# Altium schematic symbol library WL-SMCW.SchLib: 52 symbols
Pins are listed as number, name and electrical type; pins without a type are passive.

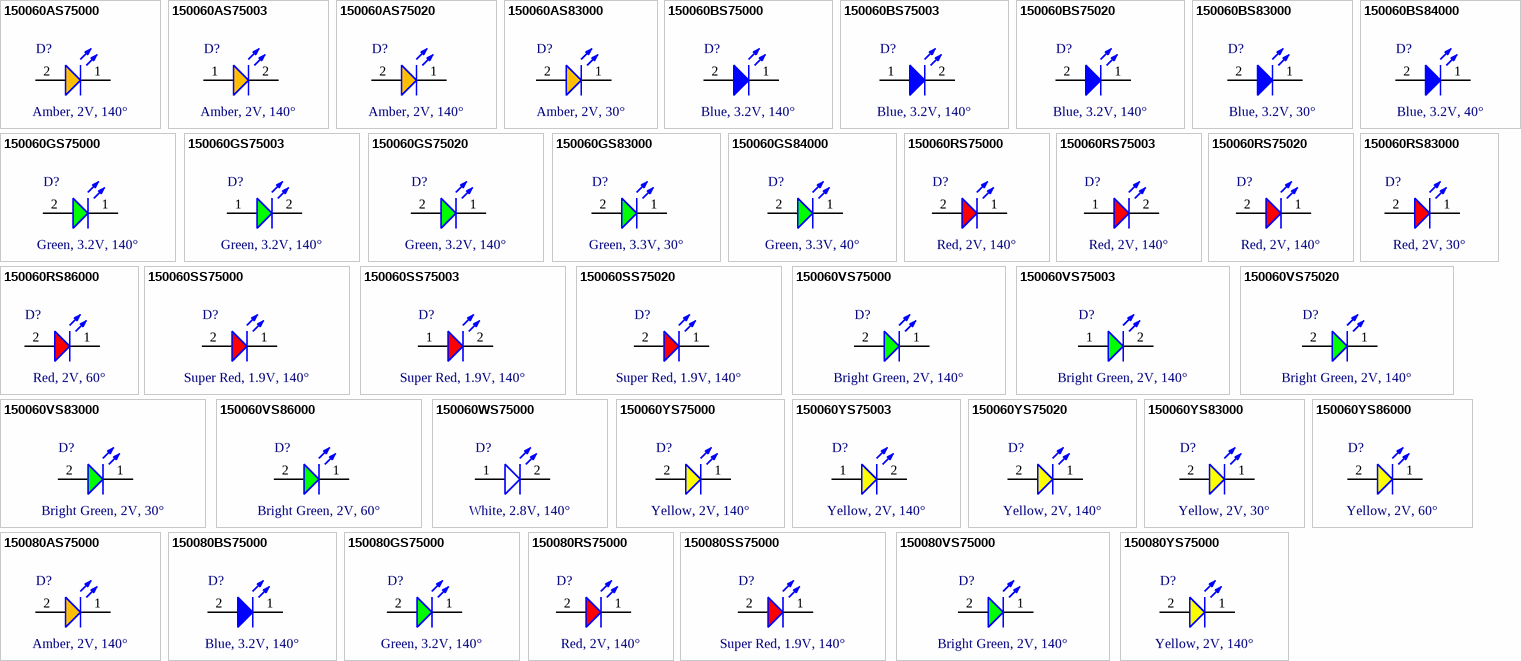
[diagram p0: symbols 150060AS75000 to 150080YS75000]

## 150060AS75000
designator D?, comment Amber, 2V, 140°
WL-SMCW Mono-color Chip LED Waterclear, SMT, size 0603, Amber, 2V, 140°; Manufacturer Part Number: 150060AS75000; Manufacturer: Wurth Elektronik; Case/Size Code: 0603; Chip Technology: AlInGaP; Dominant Wavelength: 605nm; Luminous Intensity: 130mcd; Peak Wavelength: 610nm; Category: Signal LEDs; Match Code: WL-SMCW; ComponentLink1Description: Website Link; ComponentLink1URL: https://www.we-online.com/redexpert/article/150060AS75000?ad; ComponentLink2Description: Datasheet Link; ComponentLink2URL: https://www.we-online.com/redexpert/spec/150060AS75000?ad; Mount: Surface Mount; Operating Temperature Max: 85°C; Operating Temperature Min: -40°C; Packaging: Tape and Reel; Length: 1.6mm; Width: 0.8mm; Height: 0.7mm; Emitting Color: Amber; Forward Voltage: 2V; Viewing Angle: 140°
footprint WL-SMCW_0603_150060xx75000
simulation model 0603_150060AS75000
pins: 1 K, 2 A

## 150060AS75003
designator D?, comment Amber, 2V, 140°
WL-SMCW Mono-color Chip LED Waterclear, SMT, size 0603, Amber, 2V, 140°; Manufacturer Part Number: 150060AS75003; Manufacturer: Wurth Elektronik; Case/Size Code: 0603; Chip Technology: AlInGaP; Dominant Wavelength: 605nm; Luminous Intensity: 350mcd; Peak Wavelength: 610nm; Category: Signal LEDs; Match Code: WL-SMCW; ComponentLink1Description: Website Link; ComponentLink1URL: https://www.we-online.com/redexpert/article/150060AS75003?ad; ComponentLink2Description: Datasheet Link; ComponentLink2URL: https://www.we-online.com/redexpert/spec/150060AS75003?ad; Mount: Surface Mount; Operating Temperature Max: 100°C; Operating Temperature Min: -40°C; Packaging: Tape and Reel; Length: 1.6mm; Width: 0.8mm; Height: 0.7mm; Emitting Color: Amber; Forward Voltage: 2V; Viewing Angle: 140°
footprint WL-SMCW_0603_150060xx75003
simulation model 0603_150060AS75003
pins: 1 A, 2 K

## 150060AS75020
designator D?, comment Amber, 2V, 140°
WL-SMCW Mono-color Chip LED Waterclear, SMT, size 0603, Amber, 2V, 140°; Manufacturer Part Number: 150060AS75020; Manufacturer: Wurth Elektronik; Case/Size Code: 0603; Chip Technology: AlInGaP; Dominant Wavelength: 605nm; Luminous Intensity: 140mcd; Peak Wavelength: 610nm; Category: Signal LEDs; Match Code: WL-SMCW; ComponentLink1Description: Website Link; ComponentLink1URL: https://www.we-online.com/redexpert/article/150060AS75020?ad; ComponentLink2Description: Datasheet Link; ComponentLink2URL: https://www.we-online.com/redexpert/spec/150060AS75020?ad; Mount: Surface Mount; Operating Temperature Max: 85°C; Operating Temperature Min: -40°C; Packaging: Tape and Reel; Length: 1.6mm; Width: 0.8mm; Height: 0.25mm; Emitting Color: Amber; Forward Voltage: 2V; Viewing Angle: 140°
footprint WL-SMCW_0603_150060xx75020
simulation model 0603_150060AS75020
pins: 1 K, 2 A

## 150060AS83000
designator D?, comment Amber, 2V, 30°
WL-SMCW Mono-color Chip LED Waterclear, SMT, size 0603, Amber, 2V, 30°; Manufacturer Part Number: 150060AS83000; Manufacturer: Wurth Elektronik; Case/Size Code: 0603; Chip Technology: AlInGaP; Dominant Wavelength: 605nm; Luminous Intensity: 500mcd; Peak Wavelength: 610nm; Category: Signal LEDs; Match Code: WL-SMCW; ComponentLink1Description: Website Link; ComponentLink1URL: https://www.we-online.com/redexpert/article/150060AS83000?ad; ComponentLink2Description: Datasheet Link; ComponentLink2URL: https://www.we-online.com/redexpert/spec/150060AS83000?ad; Mount: Surface Mount; Operating Temperature Max: 85°C; Operating Temperature Min: -40°C; Packaging: Tape and Reel; Length: 1.6mm; Width: 0.8mm; Height: 0.95mm; Emitting Color: Amber; Forward Voltage: 2V; Viewing Angle: 30°
footprint WL-SMCW_0603_150060xx83000
pins: 1 K, 2 A

## 150060BS75000
designator D?, comment Blue, 3.2V, 140°
WL-SMCW Mono-color Chip LED Waterclear, SMT, size 0603, Blue, 3.2V, 140°; Manufacturer Part Number: 150060BS75000; Manufacturer: Wurth Elektronik; Case/Size Code: 0603; Chip Technology: InGaN; Dominant Wavelength: 470nm; Luminous Intensity: 145mcd; Peak Wavelength: 465nm; Category: Signal LEDs; Match Code: WL-SMCW; ComponentLink1Description: Website Link; ComponentLink1URL: https://www.we-online.com/redexpert/article/150060BS75000?ad; ComponentLink2Description: Datasheet Link; ComponentLink2URL: https://www.we-online.com/redexpert/spec/150060BS75000?ad; Mount: Surface Mount; Operating Temperature Max: 85°C; Operating Temperature Min: -40°C; Packaging: Tape and Reel; Length: 1.6mm; Width: 0.8mm; Height: 0.7mm; Emitting Color: Blue; Forward Voltage: 3.2V; Viewing Angle: 140°
footprint WL-SMCW_0603_150060xx75000
simulation model 0603_150060BS75000
pins: 1 K, 2 A

## 150060BS75003
designator D?, comment Blue, 3.2V, 140°
WL-SMCW Mono-color Chip LED Waterclear, SMT, size 0603, Blue, 3.2V, 140°; Manufacturer Part Number: 150060BS75003; Manufacturer: Wurth Elektronik; Case/Size Code: 0603; Chip Technology: InGaN; Dominant Wavelength: 470nm; Luminous Intensity: 350mcd; Peak Wavelength: 465nm; Category: Signal LEDs; Match Code: WL-SMCW; ComponentLink1Description: Website Link; ComponentLink1URL: https://www.we-online.com/redexpert/article/150060BS75003?ad; ComponentLink2Description: Datasheet Link; ComponentLink2URL: https://www.we-online.com/redexpert/spec/150060BS75003?ad; Mount: Surface Mount; Operating Temperature Max: 100°C; Operating Temperature Min: -40°C; Packaging: Tape and Reel; Length: 1.6mm; Width: 0.8mm; Height: 0.7mm; Emitting Color: Blue; Forward Voltage: 3.2V; Viewing Angle: 140°
footprint WL-SMCW_0603_150060xx75003
simulation model 0603_150060BS75003
pins: 1 A, 2 K

## 150060BS75020
designator D?, comment Blue, 3.2V, 140°
WL-SMCW Mono-color Chip LED Waterclear, SMT, size 0603, Blue, 3.2V, 140°; Manufacturer Part Number: 150060BS75020; Manufacturer: Wurth Elektronik; Case/Size Code: 0603; Chip Technology: InGaN; Dominant Wavelength: 470nm; Luminous Intensity: 150mcd; Peak Wavelength: 465nm; Category: Signal LEDs; Match Code: WL-SMCW; ComponentLink1Description: Website Link; ComponentLink1URL: https://www.we-online.com/redexpert/article/150060BS75020?ad; ComponentLink2Description: Datasheet Link; ComponentLink2URL: https://www.we-online.com/redexpert/spec/150060BS75020?ad; Mount: Surface Mount; Operating Temperature Max: 85°C; Operating Temperature Min: -40°C; Packaging: Tape and Reel; Length: 1.6mm; Width: 0.8mm; Height: 0.25mm; Emitting Color: Blue; Forward Voltage: 3.2V; Viewing Angle: 140°
footprint WL-SMCW_0603_150060xx75020
simulation model 0603_150060BS75020
pins: 1 K, 2 A

## 150060BS83000
designator D?, comment Blue, 3.2V, 30°
WL-SMCW Mono-color Chip LED Waterclear, SMT, size 0603, Blue, 3.2V, 30°; Manufacturer Part Number: 150060BS83000; Manufacturer: Wurth Elektronik; Case/Size Code: 0603; Chip Technology: InGaN; Dominant Wavelength: 470nm; Luminous Intensity: 1500mcd; Peak Wavelength: 465nm; Category: Signal LEDs; Match Code: WL-SMCW; ComponentLink1Description: Website Link; ComponentLink1URL: https://www.we-online.com/redexpert/article/150060BS83000?ad; ComponentLink2Description: Datasheet Link; ComponentLink2URL: https://www.we-online.com/redexpert/spec/150060BS83000?ad; Mount: Surface Mount; Operating Temperature Max: 85°C; Operating Temperature Min: -40°C; Packaging: Tape and Reel; Length: 1.6mm; Width: 0.8mm; Height: 0.95mm; Emitting Color: Blue; Forward Voltage: 3.2V; Viewing Angle: 30°
footprint WL-SMCW_0603_150060xx83000
pins: 1 K, 2 A

## 150060BS84000
designator D?, comment Blue, 3.2V, 40°
WL-SMCW Mono-color Chip LED Waterclear, SMT, size 0603, Blue, 3.2V, 40°; Manufacturer Part Number: 150060BS84000; Manufacturer: Wurth Elektronik; Case/Size Code: 0603; Chip Technology: InGaN; Dominant Wavelength: 470nm; Luminous Intensity: 560mcd; Peak Wavelength: 465nm; Category: Signal LEDs; Match Code: WL-SMCW; ComponentLink1Description: Website Link; ComponentLink1URL: https://www.we-online.com/redexpert/article/150060BS84000?ad; ComponentLink2Description: Datasheet Link; ComponentLink2URL: https://www.we-online.com/redexpert/spec/150060BS84000?ad; Mount: Surface Mount; Operating Temperature Max: 85°C; Operating Temperature Min: -40°C; Packaging: Tape and Reel; Length: 1.6mm; Width: 0.8mm; Height: 0.95mm; Emitting Color: Blue; Forward Voltage: 3.2V; Viewing Angle: 40°
footprint WL-SMCW_0603_150060xx8x000
simulation model 0603_150060BS84000
pins: 1 K, 2 A

## 150060GS75000
designator D?, comment Green, 3.2V, 140°
WL-SMCW Mono-color Chip LED Waterclear, SMT, size 0603, Green, 3.2V, 140°; Manufacturer Part Number: 150060GS75000; Manufacturer: Wurth Elektronik; Case/Size Code: 0603; Chip Technology: InGaN; Dominant Wavelength: 525nm; Luminous Intensity: 430mcd; Peak Wavelength: 515nm; Category: Signal LEDs; Match Code: WL-SMCW; ComponentLink1Description: Website Link; ComponentLink1URL: https://www.we-online.com/redexpert/article/150060GS75000?ad; ComponentLink2Description: Datasheet Link; ComponentLink2URL: https://www.we-online.com/redexpert/spec/150060GS75000?ad; Mount: Surface Mount; Operating Temperature Max: 85°C; Operating Temperature Min: -40°C; Packaging: Tape and Reel; Length: 1.6mm; Width: 0.8mm; Height: 0.7mm; Emitting Color: Green; Forward Voltage: 3.2V; Viewing Angle: 140°
footprint WL-SMCW_0603_150060xx75000
simulation model 0603_150060GS75000
pins: 1 K, 2 A

## 150060GS75003
designator D?, comment Green, 3.2V, 140°
WL-SMCW Mono-color Chip LED Waterclear, SMT, size 0603, Green, 3.2V, 140°; Manufacturer Part Number: 150060GS75003; Manufacturer: Wurth Elektronik; Case/Size Code: 0603; Chip Technology: InGaN; Dominant Wavelength: 525nm; Luminous Intensity: 1600mcd; Peak Wavelength: 515nm; Category: Signal LEDs; Match Code: WL-SMCW; ComponentLink1Description: Website Link; ComponentLink1URL: https://www.we-online.com/redexpert/article/150060GS75003?ad; ComponentLink2Description: Datasheet Link; ComponentLink2URL: https://www.we-online.com/redexpert/spec/150060GS75003?ad; Mount: Surface Mount; Operating Temperature Max: 100°C; Operating Temperature Min: -40°C; Packaging: Tape and Reel; Length: 1.6mm; Width: 0.8mm; Height: 0.7mm; Emitting Color: Green; Forward Voltage: 3.2V; Viewing Angle: 140°
footprint WL-SMCW_0603_150060xx75003
simulation model 0603_150060GS75003
pins: 1 A, 2 K

## 150060GS75020
designator D?, comment Green, 3.2V, 140°
WL-SMCW Mono-color Chip LED Waterclear, SMT, size 0603, Green, 3.2V, 140°; Manufacturer Part Number: 150060GS75020; Manufacturer: Wurth Elektronik; Case/Size Code: 0603; Chip Technology: InGaN; Dominant Wavelength: 525nm; Luminous Intensity: 700mcd; Peak Wavelength: 515nm; Category: Signal LEDs; Match Code: WL-SMCW; ComponentLink1Description: Website Link; ComponentLink1URL: https://www.we-online.com/redexpert/article/150060GS75020?ad; ComponentLink2Description: Datasheet Link; ComponentLink2URL: https://www.we-online.com/redexpert/spec/150060GS75020?ad; Mount: Surface Mount; Operating Temperature Max: 85°C; Operating Temperature Min: -40°C; Packaging: Tape and Reel; Length: 1.6mm; Width: 0.8mm; Height: 0.25mm; Emitting Color: Green; Forward Voltage: 3.2V; Viewing Angle: 140°
footprint WL-SMCW_0603_150060xx75020
simulation model 0603_150060GS75020
pins: 1 K, 2 A

## 150060GS83000
designator D?, comment Green, 3.3V, 30°
WL-SMCW Mono-color Chip LED Waterclear, SMT, size 0603, Green, 3.3V, 30°; Manufacturer Part Number: 150060GS83000; Manufacturer: Wurth Elektronik; Case/Size Code: 0603; Chip Technology: InGaN; Dominant Wavelength: 525nm; Luminous Intensity: 4500mcd; Peak Wavelength: 520nm; Category: Signal LEDs; Match Code: WL-SMCW; ComponentLink1Description: Website Link; ComponentLink1URL: https://www.we-online.com/redexpert/article/150060GS83000?ad; ComponentLink2Description: Datasheet Link; ComponentLink2URL: https://www.we-online.com/redexpert/spec/150060GS83000?ad; Mount: Surface Mount; Operating Temperature Max: 85°C; Operating Temperature Min: -40°C; Packaging: Tape and Reel; Length: 1.6mm; Width: 0.8mm; Height: 0.95mm; Emitting Color: Green; Forward Voltage: 3.3V; Viewing Angle: 30°
footprint WL-SMCW_0603_150060xx83000
pins: 1 K, 2 A

## 150060GS84000
designator D?, comment Green, 3.3V, 40°
WL-SMCW Mono-color Chip LED Waterclear, SMT, size 0603, Green, 3.3V, 40°; Manufacturer Part Number: 150060GS84000; Manufacturer: Wurth Elektronik; Case/Size Code: 0603; Chip Technology: InGaN; Dominant Wavelength: 525nm; Luminous Intensity: 3000mcd; Peak Wavelength: 520nm; Category: Signal LEDs; Match Code: WL-SMCW; ComponentLink1Description: Website Link; ComponentLink1URL: https://www.we-online.com/redexpert/article/150060GS84000?ad; ComponentLink2Description: Datasheet Link; ComponentLink2URL: https://www.we-online.com/redexpert/spec/150060GS84000?ad; Mount: Surface Mount; Operating Temperature Max: 85°C; Operating Temperature Min: -40°C; Packaging: Tape and Reel; Length: 1.6mm; Width: 0.8mm; Height: 0.95mm; Emitting Color: Green; Forward Voltage: 3.3V; Viewing Angle: 40°
footprint WL-SMCW_0603_150060xx8x000
simulation model 0603_150060GS84000
pins: 1 K, 2 A

## 150060RS75000
designator D?, comment Red, 2V, 140°
WL-SMCW Mono-color Chip LED Waterclear, SMT, size 0603, Red, 2V, 140°; Manufacturer Part Number: 150060RS75000; Manufacturer: Wurth Elektronik; Case/Size Code: 0603; Chip Technology: AlInGaP; Dominant Wavelength: 625nm; Luminous Intensity: 250mcd; Peak Wavelength: 630nm; Category: Signal LEDs; Match Code: WL-SMCW; ComponentLink1Description: Website Link; ComponentLink1URL: https://www.we-online.com/redexpert/article/150060RS75000?ad; ComponentLink2Description: Datasheet Link; ComponentLink2URL: https://www.we-online.com/redexpert/spec/150060RS75000?ad; Mount: Surface Mount; Operating Temperature Max: 85°C; Operating Temperature Min: -40°C; Packaging: Tape and Reel; Length: 1.6mm; Width: 0.8mm; Height: 0.7mm; Emitting Color: Red; Forward Voltage: 2V; Viewing Angle: 140°
footprint WL-SMCW_0603_150060xx75000
simulation model 0603_150060RS75000
pins: 1 K, 2 A

## 150060RS75003
designator D?, comment Red, 2V, 140°
WL-SMCW Mono-color Chip LED Waterclear, SMT, size 0603, Red, 2V, 140°; Manufacturer Part Number: 150060RS75003; Manufacturer: Wurth Elektronik; Case/Size Code: 0603; Chip Technology: AlInGaP; Dominant Wavelength: 625nm; Luminous Intensity: 530mcd; Peak Wavelength: 630nm; Category: Signal LEDs; Match Code: WL-SMCW; ComponentLink1Description: Website Link; ComponentLink1URL: https://www.we-online.com/redexpert/article/150060RS75003?ad; ComponentLink2Description: Datasheet Link; ComponentLink2URL: https://www.we-online.com/redexpert/spec/150060RS75003?ad; Mount: Surface Mount; Operating Temperature Max: 100°C; Operating Temperature Min: -40°C; Packaging: Tape and Reel; Length: 1.6mm; Width: 0.8mm; Height: 0.7mm; Emitting Color: Red; Forward Voltage: 2V; Viewing Angle: 140°
footprint WL-SMCW_0603_150060xx75003
simulation model 0603_150060RS75003
pins: 1 A, 2 K

## 150060RS75020
designator D?, comment Red, 2V, 140°
WL-SMCW Mono-color Chip LED Waterclear, SMT, size 0603, Red, 2V, 140°; Manufacturer Part Number: 150060RS75020; Manufacturer: Wurth Elektronik; Case/Size Code: 0603; Chip Technology: AlInGaP; Dominant Wavelength: 625nm; Luminous Intensity: 100mcd; Peak Wavelength: 630nm; Category: Signal LEDs; Match Code: WL-SMCW; ComponentLink1Description: Website Link; ComponentLink1URL: https://www.we-online.com/redexpert/article/150060RS75020?ad; ComponentLink2Description: Datasheet Link; ComponentLink2URL: https://www.we-online.com/redexpert/spec/150060RS75020?ad; Mount: Surface Mount; Operating Temperature Max: 85°C; Operating Temperature Min: -40°C; Packaging: Tape and Reel; Length: 1.6mm; Width: 0.8mm; Height: 0.25mm; Emitting Color: Red; Forward Voltage: 2V; Viewing Angle: 140°
footprint WL-SMCW_0603_150060xx75020
simulation model 0603_150060RS75020
pins: 1 K, 2 A

## 150060RS83000
designator D?, comment Red, 2V, 30°
WL-SMCW Mono-color Chip LED Waterclear, SMT, size 0603, Red, 2V, 30°; Manufacturer Part Number: 150060RS83000; Manufacturer: Wurth Elektronik; Case/Size Code: 0603; Chip Technology: AlInGaP; Dominant Wavelength: 625nm; Luminous Intensity: 1800mcd; Peak Wavelength: 630nm; Category: Signal LEDs; Match Code: WL-SMCW; ComponentLink1Description: Website Link; ComponentLink1URL: https://www.we-online.com/redexpert/article/150060RS83000?ad; ComponentLink2Description: Datasheet Link; ComponentLink2URL: https://www.we-online.com/redexpert/spec/150060RS83000?ad; Mount: Surface Mount; Operating Temperature Max: 85°C; Operating Temperature Min: -40°C; Packaging: Tape and Reel; Length: 1.6mm; Width: 0.8mm; Height: 0.95mm; Emitting Color: Red; Forward Voltage: 2V; Viewing Angle: 30°
footprint WL-SMCW_0603_150060xx83000
pins: 1 K, 2 A

## 150060RS86000
designator D?, comment Red, 2V, 60°
WL-SMCW Mono-color Chip LED Waterclear, SMT, size 0603, Red, 2V, 60°; Manufacturer Part Number: 150060RS86000; Manufacturer: Wurth Elektronik; Case/Size Code: 0603; Chip Technology: AlInGaP; Dominant Wavelength: 624nm; Luminous Intensity: 800mcd; Peak Wavelength: 632nm; Category: Signal LEDs; Match Code: WL-SMCW; ComponentLink1Description: Website Link; ComponentLink1URL: https://www.we-online.com/redexpert/article/150060RS86000?ad; ComponentLink2Description: Datasheet Link; ComponentLink2URL: https://www.we-online.com/redexpert/spec/150060RS86000?ad; Mount: Surface Mount; Operating Temperature Max: 85°C; Operating Temperature Min: -40°C; Packaging: Tape and Reel; Length: 1.6mm; Width: 0.8mm; Height: 0.95mm; Emitting Color: Red; Forward Voltage: 2V; Viewing Angle: 60°
footprint WL-SMCW_0603_150060xx8x000
simulation model 0603_150060RS86000
pins: 1 K, 2 A

## 150060SS75000
designator D?, comment Super Red, 1.9V, 140°
WL-SMCW Mono-color Chip LED Waterclear, SMT, size 0603, Super Red, 1.9V, 140°; Manufacturer Part Number: 150060SS75000; Manufacturer: Wurth Elektronik; Case/Size Code: 0603; Chip Technology: AlInGaP; Dominant Wavelength: 630nm; Luminous Intensity: 60mcd; Peak Wavelength: 645nm; Category: Signal LEDs; Match Code: WL-SMCW; ComponentLink1Description: Website Link; ComponentLink1URL: https://www.we-online.com/redexpert/article/150060SS75000?ad; ComponentLink2Description: Datasheet Link; ComponentLink2URL: https://www.we-online.com/redexpert/spec/150060SS75000?ad; Mount: Surface Mount; Operating Temperature Max: 85°C; Operating Temperature Min: -40°C; Packaging: Tape and Reel; Length: 1.6mm; Width: 0.8mm; Height: 0.7mm; Emitting Color: Super Red; Forward Voltage: 1.9V; Viewing Angle: 140°
footprint WL-SMCW_0603_150060xx75000
simulation model 0603_150060SS75000
pins: 1 K, 2 A

## 150060SS75003
designator D?, comment Super Red, 1.9V, 140°
WL-SMCW Mono-color Chip LED Waterclear, SMT, size 0603, Super Red, 1.9V, 140°; Manufacturer Part Number: 150060SS75003; Manufacturer: Wurth Elektronik; Case/Size Code: 0603; Chip Technology: AlInGaP; Dominant Wavelength: 630nm; Luminous Intensity: 320mcd; Peak Wavelength: 645nm; Category: Signal LEDs; Match Code: WL-SMCW; ComponentLink1Description: Website Link; ComponentLink1URL: https://www.we-online.com/redexpert/article/150060SS75003?ad; ComponentLink2Description: Datasheet Link; ComponentLink2URL: https://www.we-online.com/redexpert/spec/150060SS75003?ad; Mount: Surface Mount; Operating Temperature Max: 100°C; Operating Temperature Min: -40°C; Packaging: Tape and Reel; Length: 1.6mm; Width: 0.8mm; Height: 0.7mm; Emitting Color: Super Red; Forward Voltage: 1.9V; Viewing Angle: 140°
footprint WL-SMCW_0603_150060xx75003
simulation model 0603_150060SS75003
pins: 1 A, 2 K

## 150060SS75020
designator D?, comment Super Red, 1.9V, 140°
WL-SMCW Mono-color Chip LED Waterclear, SMT, size 0603, Super Red, 1.9V, 140°; Manufacturer Part Number: 150060SS75020; Manufacturer: Wurth Elektronik; Case/Size Code: 0603; Chip Technology: AlInGaP; Dominant Wavelength: 630nm; Luminous Intensity: 70mcd; Peak Wavelength: 645nm; Category: Signal LEDs; Match Code: WL-SMCW; ComponentLink1Description: Website Link; ComponentLink1URL: https://www.we-online.com/redexpert/article/150060SS75020?ad; ComponentLink2Description: Datasheet Link; ComponentLink2URL: https://www.we-online.com/redexpert/spec/150060SS75020?ad; Mount: Surface Mount; Operating Temperature Max: 85°C; Operating Temperature Min: -40°C; Packaging: Tape and Reel; Length: 1.6mm; Width: 0.8mm; Height: 0.25mm; Emitting Color: Super Red; Forward Voltage: 1.9V; Viewing Angle: 140°
footprint WL-SMCW_0603_150060xx75020
simulation model 0603_150060SS75020
pins: 1 K, 2 A

## 150060VS75000
designator D?, comment Bright Green, 2V, 140°
WL-SMCW Mono-color Chip LED Waterclear, SMT, size 0603, Bright Green, 2V, 140°; Manufacturer Part Number: 150060VS75000; Manufacturer: Wurth Elektronik; Case/Size Code: 0603; Chip Technology: AlInGaP; Dominant Wavelength: 570nm; Luminous Intensity: 40mcd; Peak Wavelength: 572nm; Category: Signal LEDs; Match Code: WL-SMCW; ComponentLink1Description: Website Link; ComponentLink1URL: https://www.we-online.com/redexpert/article/150060VS75000?ad; ComponentLink2Description: Datasheet Link; ComponentLink2URL: https://www.we-online.com/redexpert/spec/150060VS75000?ad; Mount: Surface Mount; Operating Temperature Max: 85°C; Operating Temperature Min: -40°C; Packaging: Tape and Reel; Length: 1.6mm; Width: 0.8mm; Height: 0.7mm; Emitting Color: Bright Green; Forward Voltage: 2V; Viewing Angle: 140°
footprint WL-SMCW_0603_150060xx75000
simulation model 0603_150060VS75000
pins: 1 K, 2 A

## 150060VS75003
designator D?, comment Bright Green, 2V, 140°
WL-SMCW Mono-color Chip LED Waterclear, SMT, size 0603, Bright Green, 2V, 140°; Manufacturer Part Number: 150060VS75003; Manufacturer: Wurth Elektronik; Case/Size Code: 0603; Chip Technology: AlInGaP; Dominant Wavelength: 570nm; Luminous Intensity: 100mcd; Peak Wavelength: 572nm; Category: Signal LEDs; Match Code: WL-SMCW; ComponentLink1Description: Website Link; ComponentLink1URL: https://www.we-online.com/redexpert/article/150060VS75003?ad; ComponentLink2Description: Datasheet Link; ComponentLink2URL: https://www.we-online.com/redexpert/spec/150060VS75003?ad; Mount: Surface Mount; Operating Temperature Max: 100°C; Operating Temperature Min: -40°C; Packaging: Tape and Reel; Length: 1.6mm; Width: 0.8mm; Height: 0.7mm; Emitting Color: Bright Green; Forward Voltage: 2V; Viewing Angle: 140°
footprint WL-SMCW_0603_150060xx75003
simulation model 0603_150060VS75003
pins: 1 A, 2 K

## 150060VS75020
designator D?, comment Bright Green, 2V, 140°
WL-SMCW Mono-color Chip LED Waterclear, SMT, size 0603, Bright Green, 2V, 140°; Manufacturer Part Number: 150060VS75020; Manufacturer: Wurth Elektronik; Case/Size Code: 0603; Chip Technology: AlInGaP; Dominant Wavelength: 570nm; Luminous Intensity: 50mcd; Peak Wavelength: 572nm; Category: Signal LEDs; Match Code: WL-SMCW; ComponentLink1Description: Website Link; ComponentLink1URL: https://www.we-online.com/redexpert/article/150060VS75020?ad; ComponentLink2Description: Datasheet Link; ComponentLink2URL: https://www.we-online.com/redexpert/spec/150060VS75020?ad; Mount: Surface Mount; Operating Temperature Max: 85°C; Operating Temperature Min: -40°C; Packaging: Tape and Reel; Length: 1.6mm; Width: 0.8mm; Height: 0.25mm; Emitting Color: Bright Green; Forward Voltage: 2V; Viewing Angle: 140°
footprint WL-SMCW_0603_150060xx75020
simulation model 0603_150060VS75020
pins: 1 K, 2 A

## 150060VS83000
designator D?, comment Bright Green, 2V, 30°
WL-SMCW Mono-color Chip LED Waterclear, SMT, size 0603, Bright Green, 2V, 30°; Manufacturer Part Number: 150060VS83000; Manufacturer: Wurth Elektronik; Case/Size Code: 0603; Chip Technology: AlInGaP; Dominant Wavelength: 570nm; Luminous Intensity: 300mcd; Peak Wavelength: 565nm; Category: Signal LEDs; Match Code: WL-SMCW; ComponentLink1Description: Website Link; ComponentLink1URL: https://www.we-online.com/redexpert/article/150060VS83000?ad; ComponentLink2Description: Datasheet Link; ComponentLink2URL: https://www.we-online.com/redexpert/spec/150060VS83000?ad; Mount: Surface Mount; Operating Temperature Max: 85°C; Operating Temperature Min: -40°C; Packaging: Tape and Reel; Length: 1.6mm; Width: 0.8mm; Height: 0.95mm; Emitting Color: Bright Green; Forward Voltage: 2V; Viewing Angle: 30°
footprint WL-SMCW_0603_150060xx83000
pins: 1 K, 2 A

## 150060VS86000
designator D?, comment Bright Green, 2V, 60°
WL-SMCW Mono-color Chip LED Waterclear, SMT, size 0603, Bright Green, 2V, 60°; Manufacturer Part Number: 150060VS86000; Manufacturer: Wurth Elektronik; Case/Size Code: 0603; Chip Technology: AlInGaP; Dominant Wavelength: 573nm; Luminous Intensity: 300mcd; Peak Wavelength: 575nm; Category: Signal LEDs; Match Code: WL-SMCW; ComponentLink1Description: Website Link; ComponentLink1URL: https://www.we-online.com/redexpert/article/150060VS86000?ad; ComponentLink2Description: Datasheet Link; ComponentLink2URL: https://www.we-online.com/redexpert/spec/150060VS86000?ad; Mount: Surface Mount; Operating Temperature Max: 85°C; Operating Temperature Min: -40°C; Packaging: Tape and Reel; Length: 1.6mm; Width: 0.8mm; Height: 0.95mm; Emitting Color: Bright Green; Forward Voltage: 2V; Viewing Angle: 60°
footprint WL-SMCW_0603_150060xx8x000
simulation model 0603_150060VS86000
pins: 1 K, 2 A

## 150060WS75000
designator D?, comment White, 2.8V, 140°
WL-SMCW Mono-color Chip LED Waterclear, SMT, size 0603, White, 2.8V, 140°; Manufacturer Part Number: 150060WS75000; Manufacturer: Wurth Elektronik; Case/Size Code: 0603; Chip Technology: InGaN; Luminous Intensity: 250mcd; Category: Signal LEDs; Match Code: WL-SMCW; ComponentLink1Description: Website Link; ComponentLink1URL: https://www.we-online.com/redexpert/article/150060WS75000?ad; ComponentLink2Description: Datasheet Link; ComponentLink2URL: https://www.we-online.com/redexpert/spec/150060WS75000?ad; Mount: Surface Mount; Operating Temperature Max: 85°C; Operating Temperature Min: -40°C; Packaging: Tape and Reel; Length: 1.6mm; Width: 0.8mm; Height: 0.45mm; Emitting Color: White; Forward Voltage: 2.8V; Viewing Angle: 140°
footprint WL-SMCW_0603_150060xx75000_WS
pins: 1 A, 2 K

## 150060YS75000
designator D?, comment Yellow, 2V, 140°
WL-SMCW Mono-color Chip LED Waterclear, SMT, size 0603, Yellow, 2V, 140°; Manufacturer Part Number: 150060YS75000; Manufacturer: Wurth Elektronik; Case/Size Code: 0603; Chip Technology: AlInGaP; Dominant Wavelength: 590nm; Luminous Intensity: 120mcd; Peak Wavelength: 595nm; Category: Signal LEDs; Match Code: WL-SMCW; ComponentLink1Description: Website Link; ComponentLink1URL: https://www.we-online.com/redexpert/article/150060YS75000?ad; ComponentLink2Description: Datasheet Link; ComponentLink2URL: https://www.we-online.com/redexpert/spec/150060YS75000?ad; Mount: Surface Mount; Operating Temperature Max: 85°C; Operating Temperature Min: -40°C; Packaging: Tape and Reel; Length: 1.6mm; Width: 0.8mm; Height: 0.7mm; Emitting Color: Yellow; Forward Voltage: 2V; Viewing Angle: 140°
footprint WL-SMCW_0603_150060xx75000
simulation model 0603_150060YS75000
pins: 1 K, 2 A

## 150060YS75003
designator D?, comment Yellow, 2V, 140°
WL-SMCW Mono-color Chip LED Waterclear, SMT, size 0603, Yellow, 2V, 140°; Manufacturer Part Number: 150060YS75003; Manufacturer: Wurth Elektronik; Case/Size Code: 0603; Chip Technology: AlInGaP; Dominant Wavelength: 590nm; Luminous Intensity: 550mcd; Peak Wavelength: 595nm; Category: Signal LEDs; Match Code: WL-SMCW; ComponentLink1Description: Website Link; ComponentLink1URL: https://www.we-online.com/redexpert/article/150060YS75003?ad; ComponentLink2Description: Datasheet Link; ComponentLink2URL: https://www.we-online.com/redexpert/spec/150060YS75003?ad; Mount: Surface Mount; Operating Temperature Max: 100°C; Operating Temperature Min: -40°C; Packaging: Tape and Reel; Length: 1.6mm; Width: 0.8mm; Height: 0.7mm; Emitting Color: Yellow; Forward Voltage: 2V; Viewing Angle: 140°
footprint WL-SMCW_0603_150060xx75003
simulation model 0603_150060YS75003
pins: 1 A, 2 K

## 150060YS75020
designator D?, comment Yellow, 2V, 140°
WL-SMCW Mono-color Chip LED Waterclear, SMT, size 0603, Yellow, 2V, 140°; Manufacturer Part Number: 150060YS75020; Manufacturer: Wurth Elektronik; Case/Size Code: 0603; Chip Technology: AlInGaP; Dominant Wavelength: 590nm; Luminous Intensity: 130mcd; Peak Wavelength: 595nm; Category: Signal LEDs; Match Code: WL-SMCW; ComponentLink1Description: Website Link; ComponentLink1URL: https://www.we-online.com/redexpert/article/150060YS75020?ad; ComponentLink2Description: Datasheet Link; ComponentLink2URL: https://www.we-online.com/redexpert/spec/150060YS75020?ad; Mount: Surface Mount; Operating Temperature Max: 85°C; Operating Temperature Min: -40°C; Packaging: Tape and Reel; Length: 1.6mm; Width: 0.8mm; Height: 0.25mm; Emitting Color: Yellow; Forward Voltage: 2V; Viewing Angle: 140°
footprint WL-SMCW_0603_150060xx75020
simulation model 0603_150060YS75020
pins: 1 K, 2 A

## 150060YS83000
designator D?, comment Yellow, 2V, 30°
WL-SMCW Mono-color Chip LED Waterclear, SMT, size 0603, Yellow, 2V, 30°; Manufacturer Part Number: 150060YS83000; Manufacturer: Wurth Elektronik; Case/Size Code: 0603; Chip Technology: AlInGaP; Dominant Wavelength: 585nm; Luminous Intensity: 650mcd; Peak Wavelength: 590nm; Category: Signal LEDs; Match Code: WL-SMCW; ComponentLink1Description: Website Link; ComponentLink1URL: https://www.we-online.com/redexpert/article/150060YS83000?ad; ComponentLink2Description: Datasheet Link; ComponentLink2URL: https://www.we-online.com/redexpert/spec/150060YS83000?ad; Mount: Surface Mount; Operating Temperature Max: 85°C; Operating Temperature Min: -40°C; Packaging: Tape and Reel; Length: 1.6mm; Width: 0.8mm; Height: 0.95mm; Emitting Color: Yellow; Forward Voltage: 2V; Viewing Angle: 30°
footprint WL-SMCW_0603_150060xx83000
pins: 1 K, 2 A

## 150060YS86000
designator D?, comment Yellow, 2V, 60°
WL-SMCW Mono-color Chip LED Waterclear, SMT, size 0603, Yellow, 2V, 60°; Manufacturer Part Number: 150060YS86000; Manufacturer: Wurth Elektronik; Case/Size Code: 0603; Chip Technology: AlInGaP; Dominant Wavelength: 589nm; Luminous Intensity: 450mcd; Peak Wavelength: 591nm; Category: Signal LEDs; Match Code: WL-SMCW; ComponentLink1Description: Website Link; ComponentLink1URL: https://www.we-online.com/redexpert/article/150060YS86000?ad; ComponentLink2Description: Datasheet Link; ComponentLink2URL: https://www.we-online.com/redexpert/spec/150060YS86000?ad; Mount: Surface Mount; Operating Temperature Max: 85°C; Operating Temperature Min: -40°C; Packaging: Tape and Reel; Length: 1.6mm; Width: 0.8mm; Height: 0.95mm; Emitting Color: Yellow; Forward Voltage: 2V; Viewing Angle: 60°
footprint WL-SMCW_0603_150060xx8x000
simulation model 0603_150060YS86000
pins: 1 K, 2 A

## 150080AS75000
designator D?, comment Amber, 2V, 140°
WL-SMCW Mono-color Chip LED Waterclear, SMT, size 0805, Amber, 2V, 140°; Manufacturer Part Number: 150080AS75000; Manufacturer: Wurth Elektronik; Case/Size Code: 0805; Chip Technology: AlInGaP; Dominant Wavelength: 605nm; Luminous Intensity: 130mcd; Peak Wavelength: 610nm; Category: Signal LEDs; Match Code: WL-SMCW; ComponentLink1Description: Website Link; ComponentLink1URL: https://www.we-online.com/redexpert/article/150080AS75000?ad; ComponentLink2Description: Datasheet Link; ComponentLink2URL: https://www.we-online.com/redexpert/spec/150080AS75000?ad; Mount: Surface Mount; Operating Temperature Max: 85°C; Operating Temperature Min: -40°C; Packaging: Tape and Reel; Length: 2mm; Width: 1.25mm; Height: 0.7mm; Emitting Color: Amber; Forward Voltage: 2V; Viewing Angle: 140°
footprint WL-SMCW_0805_150080xx75000
simulation model 0805_150080AS75000
pins: 1 K, 2 A

## 150080BS75000
designator D?, comment Blue, 3.2V, 140°
WL-SMCW Mono-color Chip LED Waterclear, SMT, size 0805, Blue, 3.2V, 140°; Manufacturer Part Number: 150080BS75000; Manufacturer: Wurth Elektronik; Case/Size Code: 0805; Chip Technology: InGaN; Dominant Wavelength: 470nm; Luminous Intensity: 145mcd; Peak Wavelength: 465nm; Category: Signal LEDs; Match Code: WL-SMCW; ComponentLink1Description: Website Link; ComponentLink1URL: https://www.we-online.com/redexpert/article/150080BS75000?ad; ComponentLink2Description: Datasheet Link; ComponentLink2URL: https://www.we-online.com/redexpert/spec/150080BS75000?ad; Mount: Surface Mount; Operating Temperature Max: 85°C; Operating Temperature Min: -40°C; Packaging: Tape and Reel; Length: 2mm; Width: 1.25mm; Height: 0.7mm; Emitting Color: Blue; Forward Voltage: 3.2V; Viewing Angle: 140°
footprint WL-SMCW_0805_150080xx75000
simulation model 0805_150080BS75000
pins: 1 K, 2 A

## 150080GS75000
designator D?, comment Green, 3.2V, 140°
WL-SMCW Mono-color Chip LED Waterclear, SMT, size 0805, Green, 3.2V, 140°; Manufacturer Part Number: 150080GS75000; Manufacturer: Wurth Elektronik; Case/Size Code: 0805; Chip Technology: InGaN; Dominant Wavelength: 525nm; Luminous Intensity: 450mcd; Peak Wavelength: 515nm; Category: Signal LEDs; Match Code: WL-SMCW; ComponentLink1Description: Website Link; ComponentLink1URL: https://www.we-online.com/redexpert/article/150080GS75000?ad; ComponentLink2Description: Datasheet Link; ComponentLink2URL: https://www.we-online.com/redexpert/spec/150080GS75000?ad; Mount: Surface Mount; Operating Temperature Max: 85°C; Operating Temperature Min: -40°C; Packaging: Tape and Reel; Length: 2mm; Width: 1.25mm; Height: 0.7mm; Emitting Color: Green; Forward Voltage: 3.2V; Viewing Angle: 140°
footprint WL-SMCW_0805_150080xx75000
simulation model 0805_150080GS75000
pins: 1 K, 2 A

## 150080RS75000
designator D?, comment Red, 2V, 140°
WL-SMCW Mono-color Chip LED Waterclear, SMT, size 0805, Red, 2V, 140°; Manufacturer Part Number: 150080RS75000; Manufacturer: Wurth Elektronik; Case/Size Code: 0805; Chip Technology: AlInGaP; Dominant Wavelength: 625nm; Luminous Intensity: 150mcd; Peak Wavelength: 630nm; Category: Signal LEDs; Match Code: WL-SMCW; ComponentLink1Description: Website Link; ComponentLink1URL: https://www.we-online.com/redexpert/article/150080RS75000?ad; ComponentLink2Description: Datasheet Link; ComponentLink2URL: https://www.we-online.com/redexpert/spec/150080RS75000?ad; Mount: Surface Mount; Operating Temperature Max: 85°C; Operating Temperature Min: -40°C; Packaging: Tape and Reel; Length: 2mm; Width: 1.25mm; Height: 0.7mm; Emitting Color: Red; Forward Voltage: 2V; Viewing Angle: 140°
footprint WL-SMCW_0805_150080xx75000
simulation model 0805_150080RS75000
pins: 1 K, 2 A

## 150080SS75000
designator D?, comment Super Red, 1.9V, 140°
WL-SMCW Mono-color Chip LED Waterclear, SMT, size 0805, Super Red, 1.9V, 140°; Manufacturer Part Number: 150080SS75000; Manufacturer: Wurth Elektronik; Case/Size Code: 0805; Chip Technology: AlInGaP; Dominant Wavelength: 630nm; Luminous Intensity: 60mcd; Peak Wavelength: 645nm; Category: Signal LEDs; Match Code: WL-SMCW; ComponentLink1Description: Website Link; ComponentLink1URL: https://www.we-online.com/redexpert/article/150080SS75000?ad; ComponentLink2Description: Datasheet Link; ComponentLink2URL: https://www.we-online.com/redexpert/spec/150080SS75000?ad; Mount: Surface Mount; Operating Temperature Max: 85°C; Operating Temperature Min: -40°C; Packaging: Tape and Reel; Length: 2mm; Width: 1.25mm; Height: 0.7mm; Emitting Color: Super Red; Forward Voltage: 1.9V; Viewing Angle: 140°
footprint WL-SMCW_0805_150080xx75000
simulation model 0805_150080SS75000
pins: 1 K, 2 A

## 150080VS75000
designator D?, comment Bright Green, 2V, 140°
WL-SMCW Mono-color Chip LED Waterclear, SMT, size 0805, Bright Green, 2V, 140°; Manufacturer Part Number: 150080VS75000; Manufacturer: Wurth Elektronik; Case/Size Code: 0805; Chip Technology: AlInGaP; Dominant Wavelength: 570nm; Luminous Intensity: 40mcd; Peak Wavelength: 572nm; Category: Signal LEDs; Match Code: WL-SMCW; ComponentLink1Description: Website Link; ComponentLink1URL: https://www.we-online.com/redexpert/article/150080VS75000?ad; ComponentLink2Description: Datasheet Link; ComponentLink2URL: https://www.we-online.com/redexpert/spec/150080VS75000?ad; Mount: Surface Mount; Operating Temperature Max: 85°C; Operating Temperature Min: -40°C; Packaging: Tape and Reel; Length: 2mm; Width: 1.25mm; Height: 0.7mm; Emitting Color: Bright Green; Forward Voltage: 2V; Viewing Angle: 140°
footprint WL-SMCW_0805_150080xx75000
simulation model 0805_150080VS75000
pins: 1 K, 2 A

## 150080YS75000
designator D?, comment Yellow, 2V, 140°
WL-SMCW Mono-color Chip LED Waterclear, SMT, size 0805, Yellow, 2V, 140°; Manufacturer Part Number: 150080YS75000; Manufacturer: Wurth Elektronik; Case/Size Code: 0805; Chip Technology: AlInGaP; Dominant Wavelength: 590nm; Luminous Intensity: 120mcd; Peak Wavelength: 595nm; Category: Signal LEDs; Match Code: WL-SMCW; ComponentLink1Description: Website Link; ComponentLink1URL: https://www.we-online.com/redexpert/article/150080YS75000?ad; ComponentLink2Description: Datasheet Link; ComponentLink2URL: https://www.we-online.com/redexpert/spec/150080YS75000?ad; Mount: Surface Mount; Operating Temperature Max: 85°C; Operating Temperature Min: -40°C; Packaging: Tape and Reel; Length: 2mm; Width: 1.25mm; Height: 0.7mm; Emitting Color: Yellow; Forward Voltage: 2V; Viewing Angle: 140°
footprint WL-SMCW_0805_150080xx75000
simulation model 0805_150080YS75000
pins: 1 K, 2 A

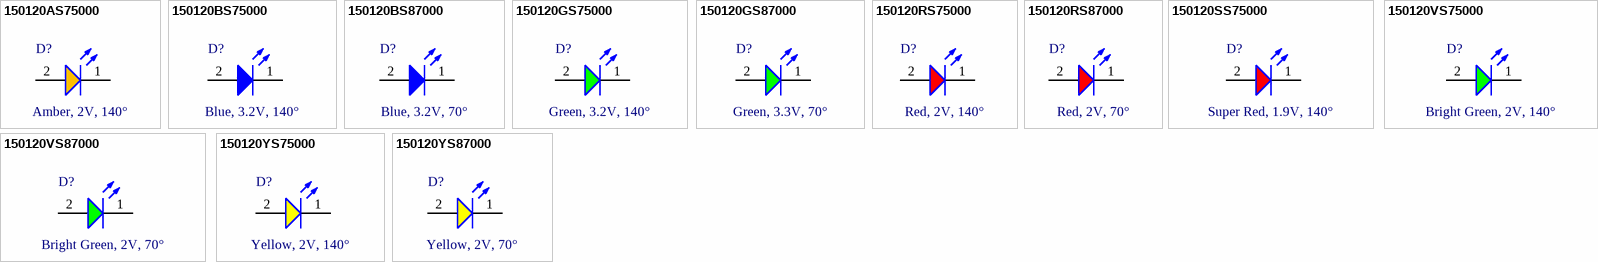
[diagram p1: symbols 150120AS75000 to 150120YS87000]

## 150120AS75000
designator D?, comment Amber, 2V, 140°
WL-SMCW Mono-color Chip LED Waterclear, SMT, size 1206, Amber, 2V, 140°; Manufacturer Part Number: 150120AS75000; Manufacturer: Wurth Elektronik; Case/Size Code: 1206; Chip Technology: AlInGaP; Dominant Wavelength: 605nm; Luminous Intensity: 140mcd; Peak Wavelength: 610nm; Category: Signal LEDs; Match Code: WL-SMCW; ComponentLink1Description: Website Link; ComponentLink1URL: https://www.we-online.com/redexpert/article/150120AS75000?ad; ComponentLink2Description: Datasheet Link; ComponentLink2URL: https://www.we-online.com/redexpert/spec/150120AS75000?ad; Mount: Surface Mount; Operating Temperature Max: 85°C; Operating Temperature Min: -40°C; Packaging: Tape and Reel; Length: 3.2mm; Width: 1.6mm; Height: 0.68mm; Emitting Color: Amber; Forward Voltage: 2V; Viewing Angle: 140°
footprint WL-SMCW_1206_150120xx75000
simulation model 1206_150120AS75000
pins: 1 K, 2 A

## 150120BS75000
designator D?, comment Blue, 3.2V, 140°
WL-SMCW Mono-color Chip LED Waterclear, SMT, size 1206, Blue, 3.2V, 140°; Manufacturer Part Number: 150120BS75000; Manufacturer: Wurth Elektronik; Case/Size Code: 1206; Chip Technology: InGaN; Dominant Wavelength: 470nm; Luminous Intensity: 145mcd; Peak Wavelength: 465nm; Category: Signal LEDs; Match Code: WL-SMCW; ComponentLink1Description: Website Link; ComponentLink1URL: https://www.we-online.com/redexpert/article/150120BS75000?ad; ComponentLink2Description: Datasheet Link; ComponentLink2URL: https://www.we-online.com/redexpert/spec/150120BS75000?ad; Mount: Surface Mount; Operating Temperature Max: 85°C; Operating Temperature Min: -40°C; Packaging: Tape and Reel; Length: 3.2mm; Width: 1.6mm; Height: 0.68mm; Emitting Color: Blue; Forward Voltage: 3.2V; Viewing Angle: 140°
footprint WL-SMCW_1206_150120xx75000
simulation model 1206_150120BS75000
pins: 1 K, 2 A

## 150120BS87000
designator D?, comment Blue, 3.2V, 70°
WL-SMCW Mono-color Chip LED Waterclear, SMT, size 1206, Blue, 3.2V, 70°; Manufacturer Part Number: 150120BS87000; Manufacturer: Wurth Elektronik; Case/Size Code: 1206; Chip Technology: InGaN; Dominant Wavelength: 470nm; Luminous Intensity: 300mcd; Peak Wavelength: 465nm; Category: Signal LEDs; Match Code: WL-SMCW; ComponentLink1Description: Website Link; ComponentLink1URL: https://www.we-online.com/redexpert/article/150120BS87000?ad; ComponentLink2Description: Datasheet Link; ComponentLink2URL: https://www.we-online.com/redexpert/spec/150120BS87000?ad; Mount: Surface Mount; Operating Temperature Max: 85°C; Operating Temperature Min: -40°C; Packaging: Tape and Reel; Length: 3.2mm; Width: 1.6mm; Height: 1.1mm; Emitting Color: Blue; Forward Voltage: 3.2V; Viewing Angle: 70°
footprint WL-SMCW_1206_150120xx87000
simulation model 1206_150120BS87000
pins: 1 K, 2 A

## 150120GS75000
designator D?, comment Green, 3.2V, 140°
WL-SMCW Mono-color Chip LED Waterclear, SMT, size 1206, Green, 3.2V, 140°; Manufacturer Part Number: 150120GS75000; Manufacturer: Wurth Elektronik; Case/Size Code: 1206; Chip Technology: InGaN; Dominant Wavelength: 525nm; Luminous Intensity: 450mcd; Peak Wavelength: 515nm; Category: Signal LEDs; Match Code: WL-SMCW; ComponentLink1Description: Website Link; ComponentLink1URL: https://www.we-online.com/redexpert/article/150120GS75000?ad; ComponentLink2Description: Datasheet Link; ComponentLink2URL: https://www.we-online.com/redexpert/spec/150120GS75000?ad; Mount: Surface Mount; Operating Temperature Max: 85°C; Operating Temperature Min: -40°C; Packaging: Tape and Reel; Length: 3.2mm; Width: 1.6mm; Height: 0.68mm; Emitting Color: Green; Forward Voltage: 3.2V; Viewing Angle: 140°
footprint WL-SMCW_1206_150120xx75000
simulation model 1206_150120GS75000
pins: 1 K, 2 A

## 150120GS87000
designator D?, comment Green, 3.3V, 70°
WL-SMCW Mono-color Chip LED Waterclear, SMT, size 1206, Green, 3.3V, 70°; Manufacturer Part Number: 150120GS87000; Manufacturer: Wurth Elektronik; Case/Size Code: 1206; Chip Technology: InGaN; Dominant Wavelength: 525nm; Luminous Intensity: 700mcd; Peak Wavelength: 520nm; Category: Signal LEDs; Match Code: WL-SMCW; ComponentLink1Description: Website Link; ComponentLink1URL: https://www.we-online.com/redexpert/article/150120GS87000?ad; ComponentLink2Description: Datasheet Link; ComponentLink2URL: https://www.we-online.com/redexpert/spec/150120GS87000?ad; Mount: Surface Mount; Operating Temperature Max: 85°C; Operating Temperature Min: -40°C; Packaging: Tape and Reel; Length: 3.2mm; Width: 1.6mm; Height: 1.1mm; Emitting Color: Green; Forward Voltage: 3.3V; Viewing Angle: 70°
footprint WL-SMCW_1206_150120xx87000
simulation model 1206_150120GS87000
pins: 1 K, 2 A

## 150120RS75000
designator D?, comment Red, 2V, 140°
WL-SMCW Mono-color Chip LED Waterclear, SMT, size 1206, Red, 2V, 140°; Manufacturer Part Number: 150120RS75000; Manufacturer: Wurth Elektronik; Case/Size Code: 1206; Chip Technology: AlInGaP; Dominant Wavelength: 625nm; Luminous Intensity: 150mcd; Peak Wavelength: 630nm; Category: Signal LEDs; Match Code: WL-SMCW; ComponentLink1Description: Website Link; ComponentLink1URL: https://www.we-online.com/redexpert/article/150120RS75000?ad; ComponentLink2Description: Datasheet Link; ComponentLink2URL: https://www.we-online.com/redexpert/spec/150120RS75000?ad; Mount: Surface Mount; Operating Temperature Max: 85°C; Operating Temperature Min: -40°C; Packaging: Tape and Reel; Length: 3.2mm; Width: 1.6mm; Height: 0.68mm; Emitting Color: Red; Forward Voltage: 2V; Viewing Angle: 140°
footprint WL-SMCW_1206_150120xx75000
simulation model 1206_150120RS75000
pins: 1 K, 2 A

## 150120RS87000
designator D?, comment Red, 2V, 70°
WL-SMCW Mono-color Chip LED Waterclear, SMT, size 1206, Red, 2V, 70°; Manufacturer Part Number: 150120RS87000; Manufacturer: Wurth Elektronik; Case/Size Code: 1206; Chip Technology: AlInGaP; Dominant Wavelength: 624nm; Luminous Intensity: 300mcd; Peak Wavelength: 632nm; Category: Signal LEDs; Match Code: WL-SMCW; ComponentLink1Description: Website Link; ComponentLink1URL: https://www.we-online.com/redexpert/article/150120RS87000?ad; ComponentLink2Description: Datasheet Link; ComponentLink2URL: https://www.we-online.com/redexpert/spec/150120RS87000?ad; Mount: Surface Mount; Operating Temperature Max: 85°C; Operating Temperature Min: -40°C; Packaging: Tape and Reel; Length: 3.2mm; Width: 1.6mm; Height: 1.1mm; Emitting Color: Red; Forward Voltage: 2V; Viewing Angle: 70°
footprint WL-SMCW_1206_150120xx87000
simulation model 1206_150120RS87000
pins: 1 K, 2 A

## 150120SS75000
designator D?, comment Super Red, 1.9V, 140°
WL-SMCW Mono-color Chip LED Waterclear, SMT, size 1206, Super Red, 1.9V, 140°; Manufacturer Part Number: 150120SS75000; Manufacturer: Wurth Elektronik; Case/Size Code: 1206; Chip Technology: AlInGaP; Dominant Wavelength: 630nm; Luminous Intensity: 60mcd; Peak Wavelength: 645nm; Category: Signal LEDs; Match Code: WL-SMCW; ComponentLink1Description: Website Link; ComponentLink1URL: https://www.we-online.com/redexpert/article/150120SS75000?ad; ComponentLink2Description: Datasheet Link; ComponentLink2URL: https://www.we-online.com/redexpert/spec/150120SS75000?ad; Mount: Surface Mount; Operating Temperature Max: 85°C; Operating Temperature Min: -40°C; Packaging: Tape and Reel; Length: 3.2mm; Width: 1.6mm; Height: 0.68mm; Emitting Color: Super Red; Forward Voltage: 1.9V; Viewing Angle: 140°
footprint WL-SMCW_1206_150120xx75000
simulation model 1206_150120SS75000
pins: 1 K, 2 A

## 150120VS75000
designator D?, comment Bright Green, 2V, 140°
WL-SMCW Mono-color Chip LED Waterclear, SMT, size 1206, Bright Green, 2V, 140°; Manufacturer Part Number: 150120VS75000; Manufacturer: Wurth Elektronik; Case/Size Code: 1206; Chip Technology: AlInGaP; Dominant Wavelength: 570nm; Luminous Intensity: 40mcd; Peak Wavelength: 572nm; Category: Signal LEDs; Match Code: WL-SMCW; ComponentLink1Description: Website Link; ComponentLink1URL: https://www.we-online.com/redexpert/article/150120VS75000?ad; ComponentLink2Description: Datasheet Link; ComponentLink2URL: https://www.we-online.com/redexpert/spec/150120VS75000?ad; Mount: Surface Mount; Operating Temperature Max: 85°C; Operating Temperature Min: -40°C; Packaging: Tape and Reel; Length: 3.2mm; Width: 1.6mm; Height: 0.68mm; Emitting Color: Bright Green; Forward Voltage: 2V; Viewing Angle: 140°
footprint WL-SMCW_1206_150120xx75000
simulation model 1206_150120VS75000
pins: 1 K, 2 A

## 150120VS87000
designator D?, comment Bright Green, 2V, 70°
WL-SMCW Mono-color Chip LED Waterclear, SMT, size 1206, Bright Green, 2V, 70°; Manufacturer Part Number: 150120VS87000; Manufacturer: Wurth Elektronik; Case/Size Code: 1206; Chip Technology: AlInGaP; Dominant Wavelength: 573nm; Luminous Intensity: 150mcd; Peak Wavelength: 575nm; Category: Signal LEDs; Match Code: WL-SMCW; ComponentLink1Description: Website Link; ComponentLink1URL: https://www.we-online.com/redexpert/article/150120VS87000?ad; ComponentLink2Description: Datasheet Link; ComponentLink2URL: https://www.we-online.com/redexpert/spec/150120VS87000?ad; Mount: Surface Mount; Operating Temperature Max: 85°C; Operating Temperature Min: -40°C; Packaging: Tape and Reel; Length: 3.2mm; Width: 1.6mm; Height: 1.1mm; Emitting Color: Bright Green; Forward Voltage: 2V; Viewing Angle: 70°
footprint WL-SMCW_1206_150120xx87000
simulation model 1206_150120VS87000
pins: 1 K, 2 A

## 150120YS75000
designator D?, comment Yellow, 2V, 140°
WL-SMCW Mono-color Chip LED Waterclear, SMT, size 1206, Yellow, 2V, 140°; Manufacturer Part Number: 150120YS75000; Manufacturer: Wurth Elektronik; Case/Size Code: 1206; Chip Technology: AlInGaP; Dominant Wavelength: 590nm; Luminous Intensity: 120mcd; Peak Wavelength: 595nm; Category: Signal LEDs; Match Code: WL-SMCW; ComponentLink1Description: Website Link; ComponentLink1URL: https://www.we-online.com/redexpert/article/150120YS75000?ad; ComponentLink2Description: Datasheet Link; ComponentLink2URL: https://www.we-online.com/redexpert/spec/150120YS75000?ad; Mount: Surface Mount; Operating Temperature Max: 85°C; Operating Temperature Min: -40°C; Packaging: Tape and Reel; Length: 3.2mm; Width: 1.6mm; Height: 0.68mm; Emitting Color: Yellow; Forward Voltage: 2V; Viewing Angle: 140°
footprint WL-SMCW_1206_150120xx75000
simulation model 1206_150120YS75000
pins: 1 K, 2 A

## 150120YS87000
designator D?, comment Yellow, 2V, 70°
WL-SMCW Mono-color Chip LED Waterclear, SMT, size 1206, Yellow, 2V, 70°; Manufacturer Part Number: 150120YS87000; Manufacturer: Wurth Elektronik; Case/Size Code: 1206; Chip Technology: AlInGaP; Dominant Wavelength: 589nm; Luminous Intensity: 350mcd; Peak Wavelength: 591nm; Category: Signal LEDs; Match Code: WL-SMCW; ComponentLink1Description: Website Link; ComponentLink1URL: https://www.we-online.com/redexpert/article/150120YS87000?ad; ComponentLink2Description: Datasheet Link; ComponentLink2URL: https://www.we-online.com/redexpert/spec/150120YS87000?ad; Mount: Surface Mount; Operating Temperature Max: 85°C; Operating Temperature Min: -40°C; Packaging: Tape and Reel; Length: 3.2mm; Width: 1.6mm; Height: 1.1mm; Emitting Color: Yellow; Forward Voltage: 2V; Viewing Angle: 70°
footprint WL-SMCW_1206_150120xx87000
simulation model 1206_150120YS87000
pins: 1 K, 2 A